# Altium footprint library CUBaja.PcbLib: 79 footprints (part 5 of 5)
Each footprint in its own frame and in the unit in brackets; x right, y up, seen from the top. Pads: shape width x height; smd on the part's side, far side on the other; paste and mask are expansions set on the pad; w line width, h text height; cw(c..) or ccw(c..) is an arc to the next point about the centre after c.
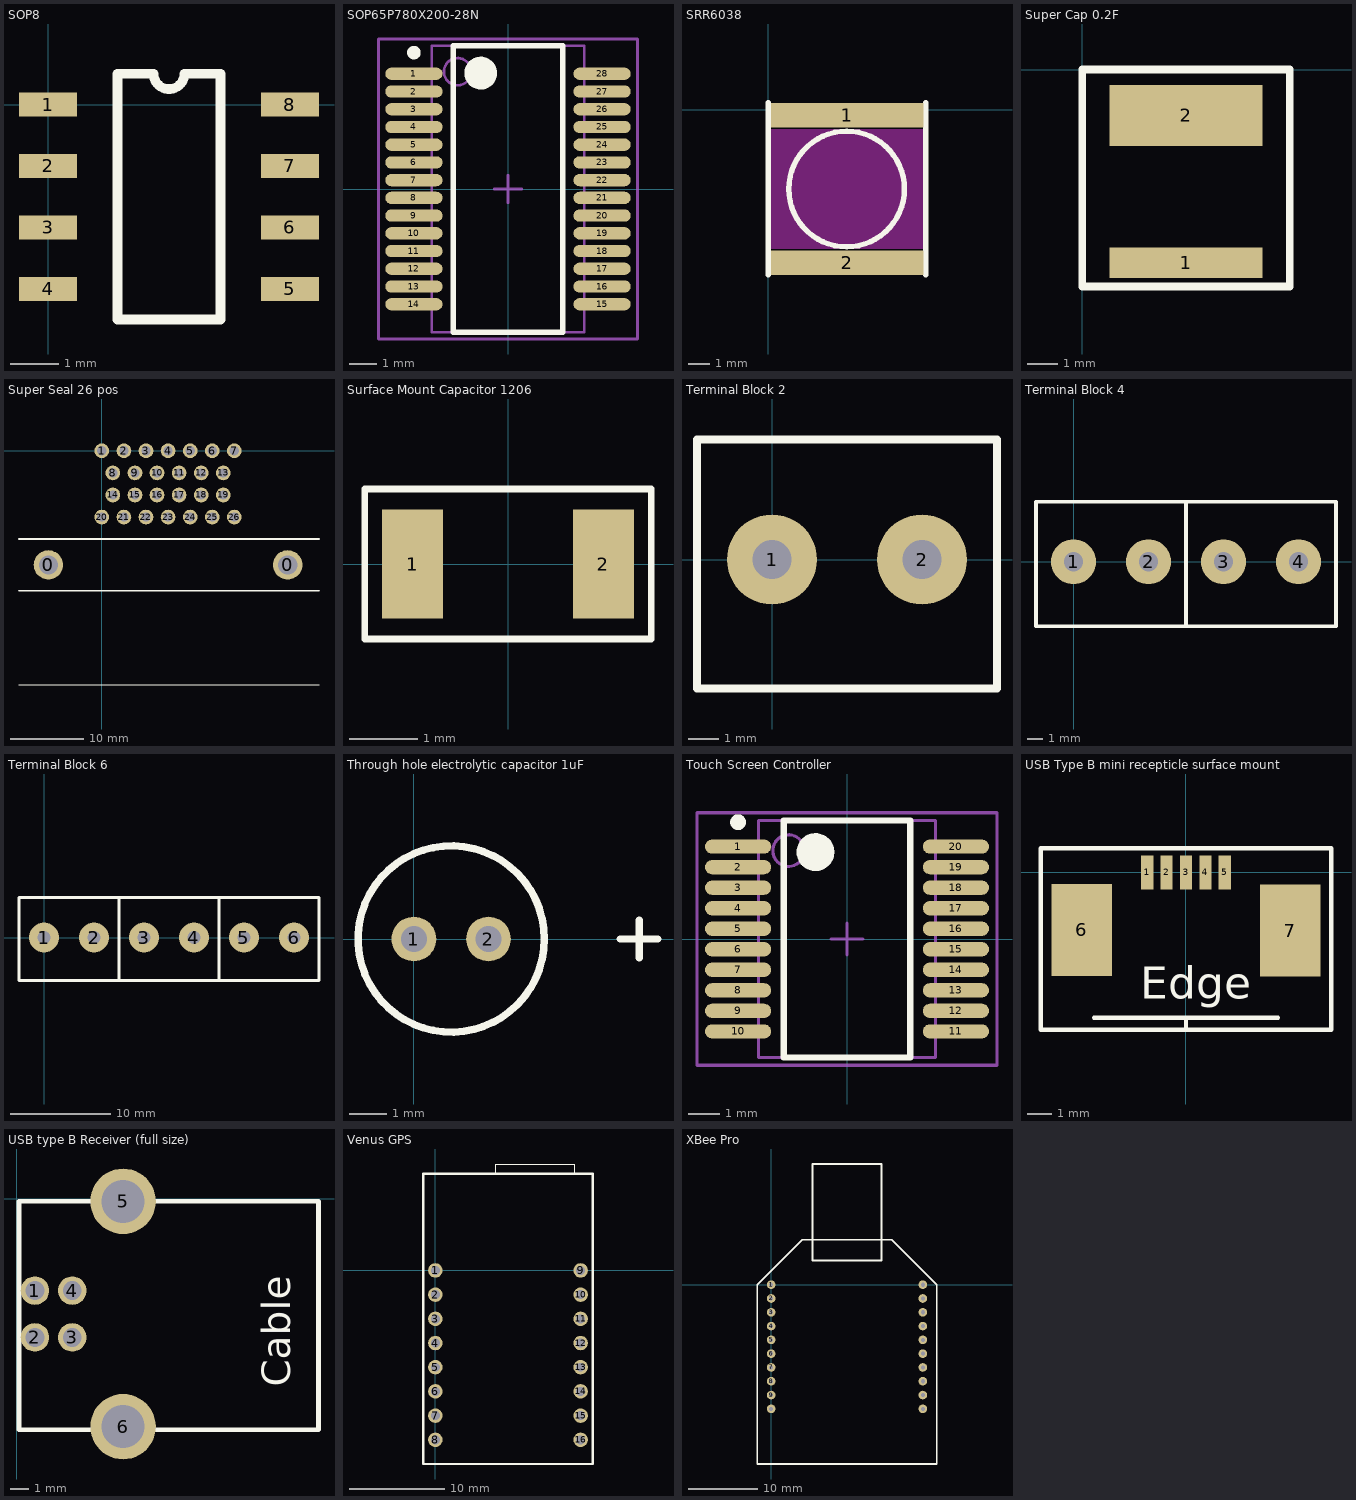
[diagram p4: the footprints below, top view; thin cyan lines are the x and y axes]

## SOP8 [mm]
pads (8):
  rect 1.2x0.5 smd: 1(0,0) 2(0,-1.27) 3(0,-2.54) 4(0,-3.81) 5(5,-3.81) 6(5,-2.54) 7(5,-1.27) 8(5,0)
Top Overlay:
  lines w0.2: 1.435,-4.445 3.565,-4.445 3.565,0.635 2.818,0.635 cw(c2.5,0.635) 2.183,0.635 1.435,0.635 1.435,-4.445

## SOP65P780X200-28N [mm] "SOP, 28-Leads, Body 10.5x5.6mm (max), Pitch 0.65mm, IPC Medium Density"
height 2
pads (28):
  oval 2.1x0.45 smd: 1(-3.45,4.225) 2(-3.45,3.575) 3(-3.45,2.925) 4(-3.45,2.275) 5(-3.45,1.625) 6(-3.45,0.975) 7(-3.45,0.325) 8(-3.45,-0.325) 9(-3.45,-0.975) 10(-3.45,-1.625) 11(-3.45,-2.275) 12(-3.45,-2.925) 13(-3.45,-3.575) 14(-3.45,-4.225) 15(3.45,-4.225) 16(3.45,-3.575) 17(3.45,-2.925) 18(3.45,-2.275) 19(3.45,-1.625) 20(3.45,-0.975) 21(3.45,-0.325) 22(3.45,0.325) 23(3.45,0.975) 24(3.45,1.625) 25(3.45,2.275) 26(3.45,2.925) 27(3.45,3.575) 28(3.45,4.225)
Top Overlay:
  circle w0.25: c-3.45,5 r0.125
  circle w0.6: c-1,4.25 r0.3
  lines w0.2: -2,-5.25 -2,5.25 2,5.25 2,-5.25 -2,-5.25
Mechanical 13:
  circle w0.1: c-1.85,4.3 r0.5
  lines w0.1: -2.8,-5.25 -2.8,5.25 2.8,5.25 2.8,-5.25 -2.8,-5.25
Mechanical 15:
  lines w0.1: -0.5,0 0.5,0 ; 0,-0.5 0,0.5 ; -4.75,-5.5 -4.75,5.5 4.75,5.5 4.75,-5.5 -4.75,-5.5
3D body: height 2, standoff 0.05, extent -2.8,-5.25 2.8,5.25

## SRR6038 [mil]
pads (2):
  rect 280x45 smd: 1(145,-10) 2(145,-280)
Top Overlay:
  circle w10: c144,-145 r106
  lines w10: 0,-301.97 0,13.03 ; 289.5,-301.97 289.5,13.03
Keep-Out Layer:
  rectangle: 5,-255 285,-35

## Super Cap 0.2F [mm]
pads (2):
  rect 5x1 smd: 1(3.4,-6.33)
  rect 5x2 smd: 2(3.4,-1.5)
Top Overlay:
  lines w0.254: 0,-7.112 0,0 6.8,0 6.8,-7.112 0,-7.112

## Super Seal 26 pos [mm]
pads (28):
  round 4 hole 2.6: 0(-7.25,-15.5) 0(25.25,-15.5)
  round 2 hole 1.25: 1(0,0) 2(3,0) 3(6,0) 4(9,0) 5(12,0) 6(15,0) 7(18,0) 8(1.5,-3) 9(4.5,-3) 10(7.5,-3) 11(10.5,-3) 12(13.5,-3) 13(16.5,-3) 14(1.5,-6) 15(4.5,-6) 16(7.5,-6) 17(10.5,-6) 18(13.5,-6) 19(16.5,-6) 20(0,-9) 21(3,-9) 22(6,-9) 23(9,-9) 24(12,-9) 25(15,-9) 26(18,-9)
Top Overlay:
  lines w0.127: -11.25,-31.75 29.5,-31.75
  lines w0.25: -11.25,-19 29.5,-19 ; -11.25,-12 29.5,-12

## Surface Mount Capacitor 1206 [mm]
pads (2):
  rect 0.9x1.6 smd: 1(-1.4,0) 2(1.4,0)
Top Overlay:
  lines w0.1: -2.1,-1.1 -2.1,1.1 2.1,1.1 2.1,-1.1 -2.1,-1.1

## Terminal Block 2 [mm]
height 11.5
pads (2):
  round 3 hole 1.3: 1(0,0) 2(5,0)
Top Overlay:
  lines w0.254: -2.5,-4.3 -2.5,4 7.5,4 7.5,-4.3 -2.5,-4.3

## Terminal Block 4 [mm]
height 11.5
pads (4):
  round 3 hole 1.3: 1(0,0) 2(5,0) 3(10,0) 4(15,0)
Top Overlay:
  lines w0.254: 7.5,-4.3 17.5,-4.3 17.5,4 7.5,4 ; 7.5,-4.3 7.5,4 ; 7.5,-4.3 7.5,4 ; 7.5,-4.3 -2.5,-4.3 -2.5,4 7.5,4

## Terminal Block 6 [mm]
height 11.5
pads (6):
  round 3 hole 1.3: 1(0,0) 2(5,0) 3(10,0) 4(15,0) 5(20,0) 6(25,0)
Top Overlay:
  lines w0.254: 7.5,-4.3 17.5,-4.3 ; 7.5,-4.3 7.5,4 ; 7.5,-4.3 7.5,4 ; 7.5,-4.3 -2.5,-4.3 -2.5,4 7.5,4 ; 7.5,4 17.5,4 ; 17.5,-4.3 27.5,-4.3 27.5,4 17.5,4 ; 17.5,-4.3 17.5,4 ; 17.5,-4.3 17.5,4

## Through hole electrolytic capacitor 1uF [mm]
pads (2):
  round 1.2 hole 0.7: 1(0,0) 2(2,0)
Top Overlay:
  circle w0.2: c1,0 r2.5
  lines w0.2: 5.532,0 6.548,0 ; 6.04,-0.508 6.04,0.508

## Touch Screen Controller [mm] "SOP, 20-Leads, Body 7.5x5.6mm (max), Pitch 0.65mm, IPC Medium Density"
height 2
pads (20):
  oval 2.1x0.45 smd: 1(-3.45,2.925) 2(-3.45,2.275) 3(-3.45,1.625) 4(-3.45,0.975) 5(-3.45,0.325) 6(-3.45,-0.325) 7(-3.45,-0.975) 8(-3.45,-1.625) 9(-3.45,-2.275) 10(-3.45,-2.925) 11(3.45,-2.925) 12(3.45,-2.275) 13(3.45,-1.625) 14(3.45,-0.975) 15(3.45,-0.325) 16(3.45,0.325) 17(3.45,0.975) 18(3.45,1.625) 19(3.45,2.275) 20(3.45,2.925)
Top Overlay:
  circle w0.6: c-1,2.75 r0.3
  circle w0.25: c-3.45,3.7 r0.125
  lines w0.2: -2,-3.75 2,-3.75 2,3.75 -2,3.75 -2,-3.75
Mechanical 13:
  circle w0.1: c-1.85,2.8 r0.5
  lines w0.1: -2.8,-3.75 2.8,-3.75 2.8,3.75 -2.8,3.75 -2.8,-3.75
Mechanical 15:
  lines w0.1: -0.5,0 0.5,0 ; 0,-0.5 0,0.5 ; -4.75,-4 4.75,-4 4.75,4 -4.75,4 -4.75,-4
3D body: height 2, standoff 0.05, extent -2.8,-3.75 2.8,3.75

## USB Type B mini recepticle surface mount [mm] "UX60SC-MB-5ST(80)"
height 4
pads (7):
  rect 0.5x1.4 smd: 1(-1.6,0) 2(-0.8,0) 3(0,0) 4(0.8,0) 5(1.6,0)
  rect 2.5x3.8 smd: 6(-4.3,-2.375) 7(4.3,-2.4)
Top Overlay:
  lines w0.178: -3.8,-6 0,-6 ; 3.8,-6 0,-6 ; 0,-6.5 0,-6 ; 0,-6.5 6,-6.5 6,1 -6,1 -6,-6.5 0,-6.5
  text "Edge" at -1.9,-5.225 h1.32

## USB type B Receiver (full size) [mm] "USB Type B Receiver full size"
height 0.262
pads (6):
  round 1.524 hole 1: 1(0.98,-4.9) 2(0.98,-7.4) 3(2.98,-7.4) 4(2.98,-4.9)
  round 3.5 hole 2.3: 5(5.69,-0.13) 6(5.69,-12.17)
Top Overlay:
  lines w0.254: 0.13,-12.33 16.13,-12.33 16.13,-0.13 0.13,-0.13 0.13,-12.33
  text "Cable" at 14.63,-10.03 h1.52

## Venus GPS [mil]
pads (16):
  round 60 hole 37: 1(0,0) 2(0,-100) 3(0,-200) 4(0,-300) 5(0,-400) 6(0,-500) 7(0,-600) 8(0,-700) 9(600,0) 10(600,-100) 11(600,-200) 12(600,-300) 13(600,-400) 14(600,-500) 15(600,-600) 16(600,-700)
Top Overlay:
  lines w5: 250,400 250,440 575,440 575,400
  lines w9.84: -50,-800 650,-800 650,400 -50,400 -50,0 -50,-800

## XBee Pro [mm]
pads (20):
  round 1.25 hole 0.6: 1(0,0) 2(0,-2) 3(0,-4) 4(0,-6) 5(0,-8) 6(0,-10) 7(0,-12) 8(0,-14) 9(0,-16) 10(0,-18) 11(22,-18) 12(22,-16) 13(22,-14) 14(22,-12) 15(22,-10) 16(22,-8) 17(22,-6) 18(22,-4) 19(22,-2) 20(22,0)
Top Overlay:
  lines w0.25: -2,0 4.5,6.5 17.5,6.5 24,0 24,-26 -2,-26 -2,0 ; -2,0 -2,0 ; -2,0 -2,0 ; 6,3.5 16,3.5 16,17.5 6,17.5 6,3.5